# EAGLE library part CD40109B (library FPGA_FOC_lib)
Quad 20v tri-state logic level shifter, low to high http://www.ti.com/lit/ds/symlink/cd40109b.pdf
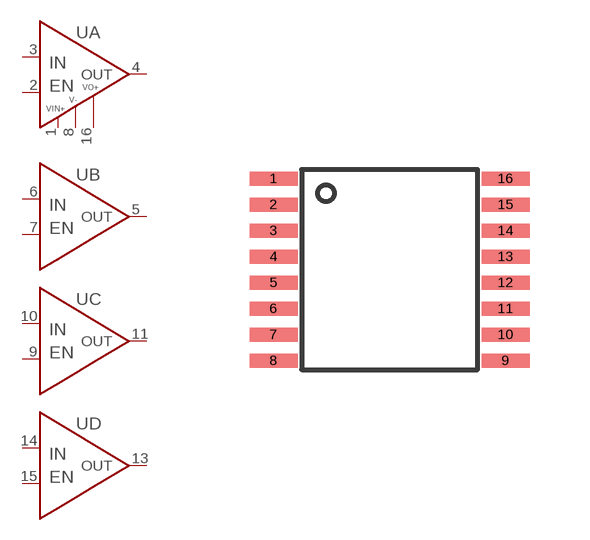
[diagram p2: symbol with the pads of TSSOP-16; footprint TSSOP-16]

Designator prefix U; gates A=TRI-BUF_LLSHIFT B=TRI-BUFFER_NO_RAILS C=TRI-BUFFER_NO_RAILS D=TRI-BUFFER_NO_RAILS

## CD40109BPWR  [TSSOP-16]
1  A:VIN+
2  A:EN
3  A:IN
4  A:OUT
5  B:OUT
6  B:IN
7  B:EN
8  A:V-
9  C:EN
10  C:IN
11  C:OUT
13  D:OUT
14  D:IN
15  D:EN
16  A:VOUT+

## Footprint TSSOP-16 (pad centres in mm)
smd 1.2 x 0.35: 1 -2.9,2.275; 2 -2.9,1.625; 3 -2.9,0.975; 4 -2.9,0.325; 5 -2.9,-0.325; 6 -2.9,-0.975; 7 -2.9,-1.625; 8 -2.9,-2.275; 9 2.9,-2.275; 10 2.9,-1.625; 11 2.9,-0.975; 12 2.9,-0.325; 13 2.9,0.325; 14 2.9,0.975; 15 2.9,1.625; 16 2.9,2.275